# Altium footprint library 封装.PcbLib: 13 footprints
Each footprint in its own frame and in the unit in brackets; x right, y up, seen from the top. Pads: shape width x height; smd on the part's side, far side on the other; paste and mask are expansions set on the pad; w line width, h text height; cw(c..) or ccw(c..) is an arc to the next point about the centre after c.
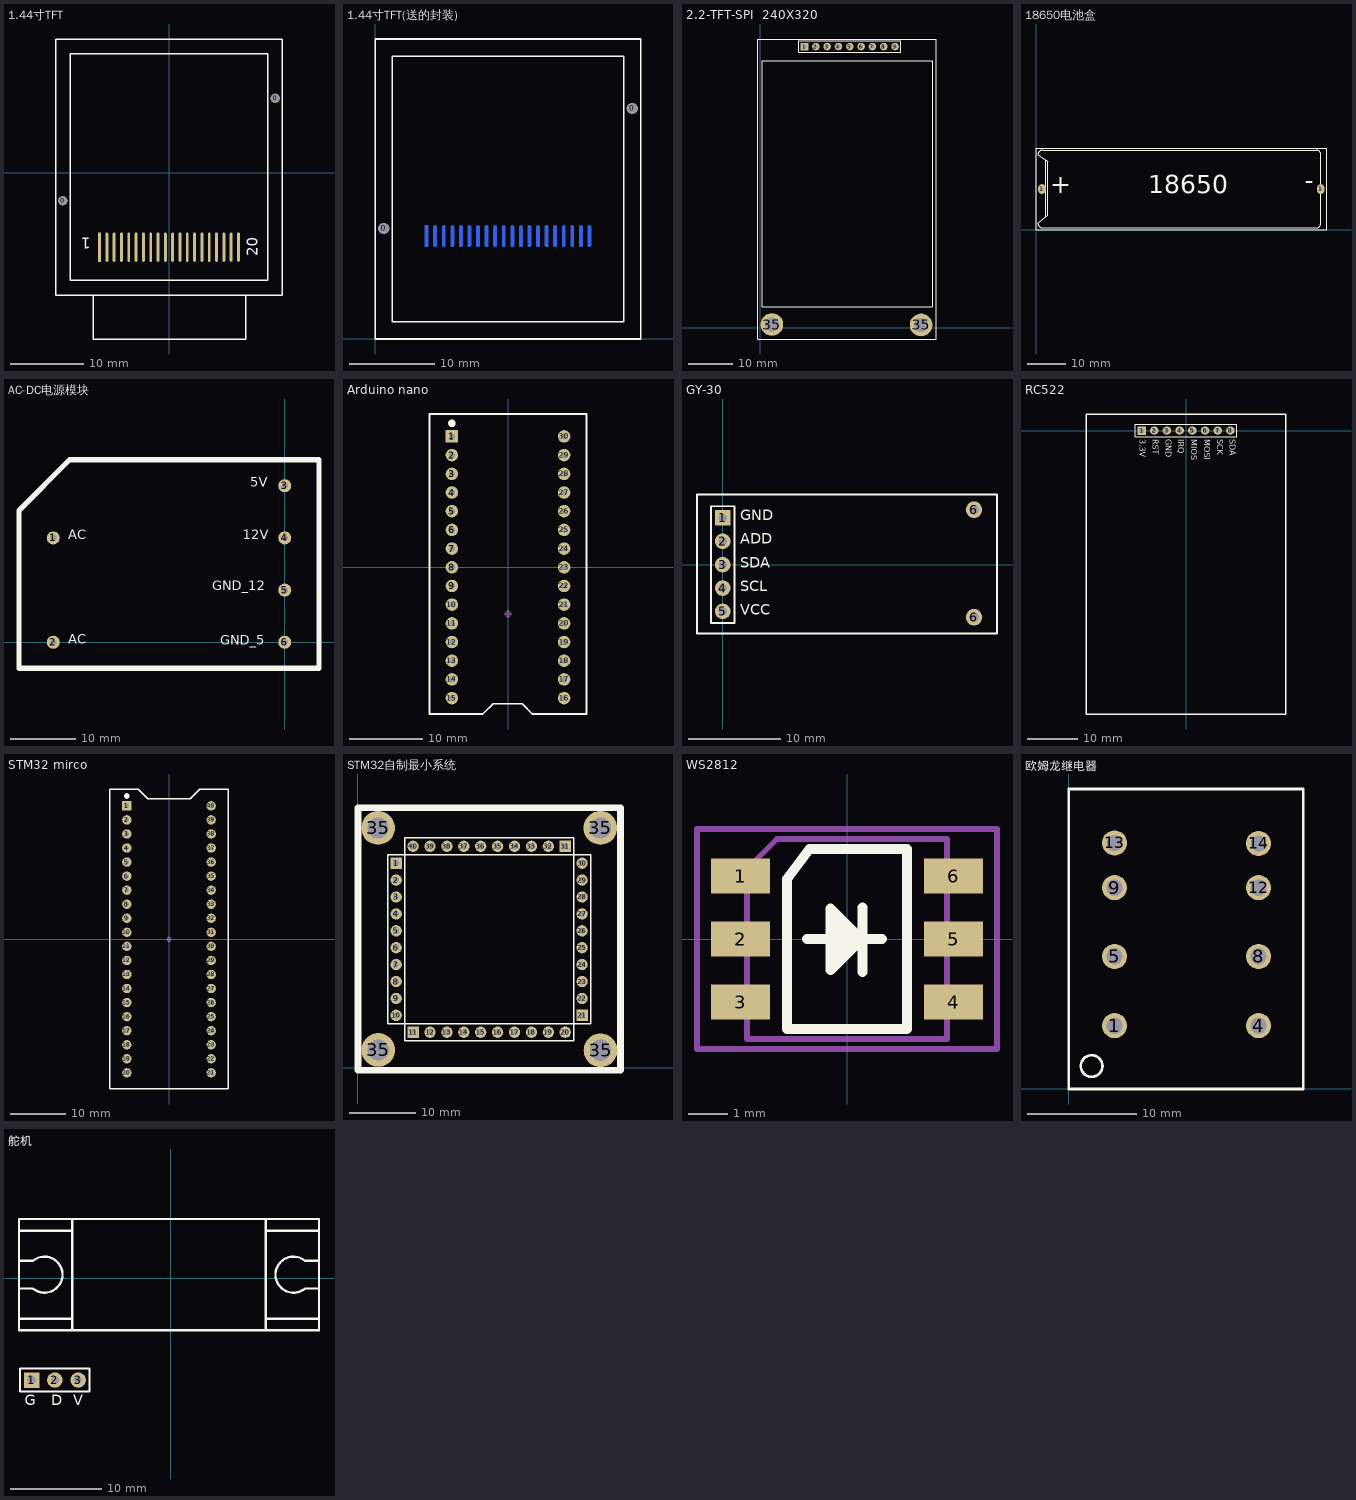
[diagram p0: the footprints below, top view; thin cyan lines are the x and y axes]

## 1.44寸TFT [mm] "1.44寸 并行TFT(买的--咸鱼至尊宝)"
pads (22):
  round 1.2 hole 1.3: 0(-14.5,-3.819) 0(14.5,10.181)
  rect 0.4x4 smd: 1(-9.5,-10.18)
  oval 0.4x4 smd: 2(-8.5,-10.18) 3(-7.5,-10.18) 4(-6.5,-10.18) 5(-5.5,-10.18) 6(-4.5,-10.18) 7(-3.5,-10.18) 8(-2.5,-10.18) 9(-1.5,-10.18) 10(-0.5,-10.18) 11(0.5,-10.18) 12(1.5,-10.18) 13(2.5,-10.18) 14(3.5,-10.18) 15(4.5,-10.18) 16(5.5,-10.18) 17(6.5,-10.18) 18(7.5,-10.18) 19(8.5,-10.18) 20(9.5,-10.18)
Top Overlay:
  lines w0.2: -13.5,13.281 -13.5,16.281 13.5,16.281 13.5,-14.719 -13.5,-14.719 -13.5,14.281 ; -10.363,-16.758 -10.363,-22.733 10.51,-22.733 10.51,-16.758 ; -15.5,-16.719 15.5,-16.719 15.5,18.281 -15.5,18.281 -15.5,-16.719
  text "1" at -10.674,-8.911 h1.5
  text "20" at 12.135,-11.411 h1.5

## 1.44寸TFT(送的封装) [mm] "1.44寸 并行TFT(买的--咸鱼至尊宝)"
pads (22):
  round 1.2 hole 1.3: 0(1,12.875) 0(30,26.875)
  rect 0.4x2.5 smd far side: 1(6,11.975)
  oval 0.4x2.5 smd far side: 2(7,11.975) 3(8,11.975) 4(9,11.975) 5(10,11.975) 6(11,11.975) 7(12,11.975) 8(13,11.975) 9(14,11.975) 10(15,11.975) 11(16,11.975) 12(17,11.975) 13(18,11.975) 14(19,11.975) 15(20,11.975) 16(21,11.975) 17(22,11.975) 18(23,11.975) 19(24,11.975) 20(25,11.975)
Top Overlay:
  lines w0.2: 2,29.975 2,32.975 29,32.975 29,1.975 2,1.975 2,30.975 ; 0,-0.025 31,-0.025 31,34.975 0,34.975 0,-0.025

## 2.2-TFT-SPI  240X320 [mm] "红色的TFT彩屏2.2寸"
pads (11):
  rect 1.7x1.7 hole 0.9: 1(9.931,63.068)
  round 1.7 hole 0.9: 2(12.471,63.068) 3(15.011,63.068) 4(17.551,63.068) 5(20.091,63.068) 6(22.631,63.068) 7(25.171,63.068) 8(27.711,63.068) 9(30.251,63.068)
  round 5.08 hole 3.175: 35(2.616,0.686) 35(36.093,0.584)
Top Overlay:
  lines w0.2: 8.661,61.798 31.521,61.798 31.521,64.338 8.661,64.338 8.661,61.798
  lines w0.254: -0.533,-2.565 -0.533,64.765 39.467,64.765 39.467,-2.565 -0.533,-2.565 ; 0.432,4.623 0.457,4.648 0.457,59.919 8.915,59.919 38.557,59.919 38.557,4.623 0.432,4.623
3D body "HDR2.54-1P.STEP": height 8.5, standoff -3, extent 26.441,61.798 28.981,64.338
3D body "HDR2.54-1P.STEP": height 8.5, standoff -3, extent 28.981,61.798 31.521,64.338
3D body "HDR2.54-1P.STEP": height 8.5, standoff -3, extent 21.361,61.798 23.901,64.338
3D body "HDR2.54-1P.STEP": height 8.5, standoff -3, extent 23.901,61.798 26.441,64.338
3D body "HDR2.54-1P.STEP": height 8.5, standoff -3, extent 18.821,61.798 21.361,64.338
3D body "HDR2.54-1P.STEP": height 8.5, standoff -3, extent 13.741,61.798 16.281,64.338
3D body "HDR2.54-1P.STEP": height 8.5, standoff -3, extent 16.281,61.798 18.821,64.338
3D body "HDR2.54-1P.STEP": height 8.5, standoff -3, extent 8.661,61.798 11.201,64.338
3D body "HDR2.54-1P.STEP": height 8.5, standoff -3, extent 11.201,61.798 13.741,64.338

## 18650电池盒 [mm] "单节的18650电池盒"
pads (2):
  oval 2x2.5 hole 0.8: 1(1.524,10.49) 1(73.457,10.49)
Top Overlay:
  lines w0.254: 1.737,0.442 cw(c1.737,1.712) 0.467,1.712 2.997,3.691 2.997,17.602 0.467,19.288 cw(c1.737,19.288) 1.737,20.558 33.721,20.558 72.279,20.558 cw(c72.279,19.339) 73.498,19.339 73.498,1.762 ; 1.762,0.442 72.192,0.442 ; 2.539,3.378 2.539,17.907 ; 72.167,0.442 ccw(c72.167,1.762) 73.488,1.762 ; 0,0 0,21 75,21 75,0 0,0
  text "-" at 69.393,8.84 h8
  text "+" at 3.632,7.899 h8
  text "18650" at 28.931,7.899 h8

## AC-DC电源模块 [mm] "220V转12V和5V电源模块"
pads (6):
  round 2 hole 1: 1(-35.5,16) 2(-35.5,0) 3(0,24) 4(0,16) 5(0,8) 6(0,0)
Top Overlay:
  lines w0.8: -40.75,-4 5.25,-4 5.25,28 -32.96,28 -40.75,20.21 -40.75,-4
  text "AC" at -33.198,15.24 h2.5
  text "AC" at -33.198,-0.762 h2.5
  text "5V" at -5.257,23.289 h2.5
  text "12V" at -6.426,15.288 h2.5
  text "GND_12" at -11.105,7.439 h2.5
  text "GND_5" at -9.906,-0.917 h2.5

## Arduino nano [mm]
pads (30):
  rect 1.7x1.7 hole 0.8: 1(-7.62,17.78)
  round 1.7 hole 0.8: 2(-7.62,15.24) 3(-7.62,12.7) 4(-7.62,10.16) 5(-7.62,7.62) 6(-7.62,5.08) 7(-7.62,2.54) 8(-7.62,0) 9(-7.62,-2.54) 10(-7.62,-5.08) 11(-7.62,-7.62) 12(-7.62,-10.16) 13(-7.62,-12.7) 14(-7.62,-15.24) 15(-7.62,-17.78) 16(7.62,-17.78) 17(7.62,-15.24) 18(7.62,-12.7) 19(7.62,-10.16) 20(7.62,-7.62) 21(7.62,-5.08) 22(7.62,-2.54) 23(7.62,0) 24(7.62,2.54) 25(7.62,5.08) 26(7.62,7.62) 27(7.62,10.16) 28(7.62,12.7) 29(7.62,15.24) 30(7.62,17.78)
Top Overlay:
  circle w0.508: c-7.62,19.558 r0.254
  lines w0.254: 5.588,20.828 10.668,20.828 10.668,-19.939 3.302,-19.939 1.905,-18.542 0.921,-18.542 -1.048,-18.542 -2.032,-18.542 -3.429,-19.939 -10.668,-19.939 -10.668,20.828 -5.588,20.828 5.842,20.828
Mechanical 15:
  circle w0.05: c0,-6.35 r0.35
  lines w0.05: -0.5,-6.35 0.5,-6.35 ; 0,-6.85 0,-5.85

## GY-30 [mm]
pads (7):
  rect 1.7x1.7 hole 0.9: 1(0,5.08)
  round 1.7 hole 0.9: 2(0,2.54) 3(0,0) 4(0,-2.54) 5(0,-5.08)
  round 1.8 hole 1: 6(27.305,-5.715) 6(27.305,5.969)
Top Overlay:
  lines w0.2: -1.27,-6.35 -1.27,6.35 1.27,6.35 1.27,-6.35 -1.27,-6.35
  lines w0.254: -2.794,-7.48 -2.794,7.62 29.806,7.62 29.806,-7.48 -2.794,-7.48
  text "GND" at 1.905,4.445 h2
  text "ADD" at 1.905,1.873 h2
  text "SDA" at 1.905,-0.699 h2
  text "SCL" at 1.905,-3.27 h2
  text "VCC" at 1.905,-5.842 h2
3D body "HDR2.54-1P.STEP": height 8.5, standoff -3, extent -1.27,-6.35 1.27,-3.81
3D body "HDR2.54-1P.STEP": height 8.5, standoff -3, extent -1.27,-1.27 1.27,1.27
3D body "HDR2.54-1P.STEP": height 8.5, standoff -3, extent -1.27,-3.81 1.27,-1.27
3D body "HDR2.54-1P.STEP": height 8.5, standoff -3, extent -1.27,3.81 1.27,6.35
3D body "HDR2.54-1P.STEP": height 8.5, standoff -3, extent -1.27,1.27 1.27,3.81

## RC522 [mm]
pads (8):
  rect 1.7x1.7 hole 0.9: 1(-8.89,0)
  round 1.7 hole 0.9: 2(-6.35,0) 3(-3.81,0) 4(-1.27,0) 5(1.27,0) 6(3.81,0) 7(6.35,0) 8(8.89,0)
Top Overlay:
  lines w0.2: -10.16,-1.27 10.16,-1.27 10.16,1.27 -10.16,1.27 -10.16,-1.27
  lines w0.254: -20,-56.698 20,-56.698 20,3.302 -20,3.302 -20,-56.698
  text "3.3V" at -9.652,-1.778 h2
  text "RST" at -7.076,-1.778 h2
  text "GND" at -4.499,-1.778 h2
  text "IRQ" at -1.923,-1.778 h2
  text "MIOS" at 0.653,-1.778 h2
  text "MOSI" at 3.229,-1.778 h2
  text "SCK" at 5.806,-1.778 h2
  text "SDA" at 8.382,-1.778 h2
3D body "HDR2.54-1P_M.STEP": height 8.5, standoff -3, extent 7.62,-1.27 10.16,1.27
3D body "HDR2.54-1P_M.STEP": height 8.5, standoff -3, extent -5.08,-1.27 -2.54,1.27
3D body "HDR2.54-1P_M.STEP": height 8.5, standoff -3, extent -10.16,-1.27 -7.62,1.27
3D body "HDR2.54-1P_M.STEP": height 8.5, standoff -3, extent -7.62,-1.27 -5.08,1.27
3D body "HDR2.54-1P_M.STEP": height 8.5, standoff -3, extent 2.54,-1.27 5.08,1.27
3D body "HDR2.54-1P_M.STEP": height 8.5, standoff -3, extent -2.54,-1.27 0,1.27
3D body "HDR2.54-1P_M.STEP": height 8.5, standoff -3, extent 0,-1.27 2.54,1.27
3D body "HDR2.54-1P_M.STEP": height 8.5, standoff -3, extent 5.08,-1.27 7.62,1.27

## STM32 mirco [mm]
pads (40):
  rect 1.7x1.7 hole 0.8: 1(-7.62,24.13)
  round 1.7 hole 0.8: 2(-7.62,21.59) 3(-7.62,19.05) 4(-7.62,16.51) 5(-7.62,13.97) 6(-7.62,11.43) 7(-7.62,8.89) 8(-7.62,6.35) 9(-7.62,3.81) 10(-7.62,1.27) 11(-7.62,-1.27) 12(-7.62,-3.81) 13(-7.62,-6.35) 14(-7.62,-8.89) 15(-7.62,-11.43) 16(-7.62,-13.97) 17(-7.62,-16.51) 18(-7.62,-19.05) 19(-7.62,-21.59) 20(-7.62,-24.13) 21(7.62,-24.13) 22(7.62,-21.59) 23(7.62,-19.05) 24(7.62,-16.51) 25(7.62,-13.97) 26(7.62,-11.43) 27(7.62,-8.89) 28(7.62,-6.35) 29(7.62,-3.81) 30(7.62,-1.27) 31(7.62,1.27) 32(7.62,3.81) 33(7.62,6.35) 34(7.62,8.89) 35(7.62,11.43) 36(7.62,13.97) 37(7.62,16.51) 38(7.62,19.05) 39(7.62,21.59) 40(7.62,24.13)
Top Overlay:
  circle w0.508: c-7.62,25.908 r0.254
  lines w0.254: -0.635,25.4 -3.81,25.4 ; 0.635,25.4 3.81,25.4 ; -3.81,25.4 -5.588,27.178 -10.668,27.178 -10.668,-27.051 10.668,-27.051 10.668,27.178 5.588,27.178 3.81,25.4 ; -3.81,25.4 3.81,25.4
Mechanical 15:
  circle w0.05: c0,0 r0.35
  lines w0.05: -0.5,0 0.5,0 ; 0,-0.5 0,0.5

## STM32自制最小系统 [mm]
pads (44):
  rect 1.7x1.7 hole 0.9: 1(5.791,30.759) 11(8.331,5.359) 21(33.731,7.899) 31(31.191,33.299)
  round 1.7 hole 0.9: 2(5.791,28.219) 3(5.791,25.679) 4(5.791,23.139) 5(5.791,20.599) 6(5.791,18.059) 7(5.791,15.519) 8(5.791,12.979) 9(5.791,10.439) 10(5.791,7.899) 12(10.871,5.359) 13(13.411,5.359) 14(15.951,5.359) 15(18.491,5.359) 16(21.031,5.359) 17(23.571,5.359) 18(26.111,5.359) 19(28.651,5.359) 20(31.191,5.359) 22(33.731,10.439) 23(33.731,12.979) 24(33.731,15.519) 25(33.731,18.059) 26(33.731,20.599) 27(33.731,23.139) 28(33.731,25.679) 29(33.731,28.219) 30(33.731,30.759) 32(28.651,33.299) 33(26.111,33.299) 34(23.571,33.299) 35(21.031,33.299) 36(18.491,33.299) 37(15.951,33.299) 38(13.411,33.299) 39(10.871,33.299) 40(8.331,33.299)
  round 5.08 hole 3.175: 35(3.073,36.068) 35(3.099,2.692) 35(36.474,36.068) 35(36.5,2.642)
Top Layer:
  pour cut-out: 8.306,5.817
  pour cut-out: 45.136,13.564
Top Overlay:
  lines w0.2: 7.061,6.629 7.061,4.089 32.461,4.089 32.461,6.629 ; 7.061,6.629 32.461,6.629 ; 7.061,6.629 4.521,6.629 4.521,32.029 7.061,32.029 ; 7.061,6.629 7.061,32.029 ; 7.061,32.029 7.061,34.569 32.461,34.569 32.461,32.029 ; 7.061,32.029 32.461,32.029 ; 32.461,6.629 32.461,32.029 ; 32.461,6.629 35.001,6.629 35.001,32.029 32.461,32.029
  lines w1: 0.051,-0.356 0.051,39.091 39.497,39.091 39.497,-0.356 0.051,-0.356
3D body "HDR2.54-1P.STEP": height 8.5, standoff -3, extent 9.601,4.089 12.141,6.629
3D body "HDR2.54-1P.STEP": height 8.5, standoff -3, extent 7.061,4.089 9.601,6.629
3D body "HDR2.54-1P.STEP": height 8.5, standoff -3, extent 14.681,4.089 17.221,6.629
3D body "HDR2.54-1P.STEP": height 8.5, standoff -3, extent 12.141,4.089 14.681,6.629
3D body "HDR2.54-1P.STEP": height 8.5, standoff -3, extent 17.221,4.089 19.761,6.629
3D body "HDR2.54-1P.STEP": height 8.5, standoff -3, extent 22.301,4.089 24.841,6.629
3D body "HDR2.54-1P.STEP": height 8.5, standoff -3, extent 19.761,4.089 22.301,6.629
3D body "HDR2.54-1P.STEP": height 8.5, standoff -3, extent 27.381,4.089 29.921,6.629
3D body "HDR2.54-1P.STEP": height 8.5, standoff -3, extent 24.841,4.089 27.381,6.629
3D body "HDR2.54-1P.STEP": height 8.5, standoff -3, extent 29.921,4.089 32.461,6.629
3D body "HDR2.54-1P.STEP": height 8.5, standoff -3, extent 32.461,29.489 35.001,32.029
3D body "HDR2.54-1P.STEP": height 8.5, standoff -3, extent 32.461,24.409 35.001,26.949
3D body "HDR2.54-1P.STEP": height 8.5, standoff -3, extent 32.461,26.949 35.001,29.489
3D body "HDR2.54-1P.STEP": height 8.5, standoff -3, extent 32.461,19.329 35.001,21.869
3D body "HDR2.54-1P.STEP": height 8.5, standoff -3, extent 32.461,21.869 35.001,24.409
3D body "HDR2.54-1P.STEP": height 8.5, standoff -3, extent 32.461,16.789 35.001,19.329
3D body "HDR2.54-1P.STEP": height 8.5, standoff -3, extent 32.461,11.709 35.001,14.249
3D body "HDR2.54-1P.STEP": height 8.5, standoff -3, extent 32.461,14.249 35.001,16.789
3D body "HDR2.54-1P.STEP": height 8.5, standoff -3, extent 32.461,6.629 35.001,9.169
3D body "HDR2.54-1P.STEP": height 8.5, standoff -3, extent 32.461,9.169 35.001,11.709
3D body "HDR2.54-1P.STEP": height 8.5, standoff -3, extent 27.381,32.029 29.921,34.569
3D body "HDR2.54-1P.STEP": height 8.5, standoff -3, extent 29.921,32.029 32.461,34.569
3D body "HDR2.54-1P.STEP": height 8.5, standoff -3, extent 22.301,32.029 24.841,34.569
3D body "HDR2.54-1P.STEP": height 8.5, standoff -3, extent 24.841,32.029 27.381,34.569
3D body "HDR2.54-1P.STEP": height 8.5, standoff -3, extent 19.761,32.029 22.301,34.569
3D body "HDR2.54-1P.STEP": height 8.5, standoff -3, extent 14.681,32.029 17.221,34.569
3D body "HDR2.54-1P.STEP": height 8.5, standoff -3, extent 17.221,32.029 19.761,34.569
3D body "HDR2.54-1P.STEP": height 8.5, standoff -3, extent 9.601,32.029 12.141,34.569
3D body "HDR2.54-1P.STEP": height 8.5, standoff -3, extent 12.141,32.029 14.681,34.569
3D body "HDR2.54-1P.STEP": height 8.5, standoff -3, extent 7.061,32.029 9.601,34.569
3D body "HDR2.54-1P.STEP": height 8.5, standoff -3, extent 4.521,26.949 7.061,29.489
3D body "HDR2.54-1P.STEP": height 8.5, standoff -3, extent 4.521,29.489 7.061,32.029
3D body "HDR2.54-1P.STEP": height 8.5, standoff -3, extent 4.521,21.869 7.061,24.409
3D body "HDR2.54-1P.STEP": height 8.5, standoff -3, extent 4.521,24.409 7.061,26.949
3D body "HDR2.54-1P.STEP": height 8.5, standoff -3, extent 4.521,19.329 7.061,21.869
3D body "HDR2.54-1P.STEP": height 8.5, standoff -3, extent 4.521,14.249 7.061,16.789
3D body "HDR2.54-1P.STEP": height 8.5, standoff -3, extent 4.521,16.789 7.061,19.329
3D body "HDR2.54-1P.STEP": height 8.5, standoff -3, extent 4.521,9.169 7.061,11.709
3D body "HDR2.54-1P.STEP": height 8.5, standoff -3, extent 4.521,11.709 7.061,14.249
3D body "HDR2.54-1P.STEP": height 8.5, standoff -3, extent 4.521,6.629 7.061,9.169

## WS2812 [mm] "全彩LED"
pads (6):
  rect 1.5x0.9 smd: 1(-2.705,1.6) 2(-2.705,0) 3(-2.705,-1.6) 4(2.705,-1.6) 5(2.705,0) 6(2.705,1.6)
Top Overlay:
  lines w0.254: -1.016,0 0.889,0 ; -0.254,0.559 -0.229,-0.432 0.254,0 0,0.254 0,0 0,-0.254 ; 0.356,-0.02 -0.417,-0.792 -0.417,0.775 0.396,-0.038 ; 0.396,-0.841 0.396,0.805 ; -1.524,-2.286 -1.524,1.524 -0.953,2.286 1.524,2.286 1.524,-2.286 -1.524,-2.286
Mechanical 13:
  lines w0.15: -2.54,-2.54 -2.54,1.778 -1.778,2.54 2.54,2.54 2.54,-2.54 -2.54,-2.54
Mechanical 15:
  circle w0.05: c0,0 r0.35
  lines w0.05: -0.5,0 0.5,0 ; 0,-0.5 0,0.5
  lines w0.15: -3.81,-2.794 -3.81,2.794 3.81,2.794 3.81,-2.794 -3.81,-2.794
3D body "LED 5050 基体.STEP": height 1.65, standoff 0.05, extent -2.7,-2.5 2.7,2.5
3D body "LED 5050 透明胶.ST": height 1.65, standoff 0.67, extent -1.995,-1.995 1.995,1.995

## 欧姆龙继电器 [mm] "欧姆龙通用继电器"
pads (8):
  round 2.3 hole 1.5: 1(4.2,5.8) 4(17.4,5.8) 5(4.2,12.15) 8(17.4,12.15) 9(4.2,18.45) 12(17.4,18.45) 13(4.2,22.55) 14(17.4,22.5)
Top Overlay:
  circle w0.254: c2.1,2.1 r0.992
  lines w0.254: 21.5,-0.006 21.5,27.494 0,27.494 0,0 21.5,0

## 舵机 [mm]
pads (3):
  rect 1.7x1.7 hole 0.9: 1(-15.24,-11.176)
  round 1.7 hole 0.9: 2(-12.7,-11.176) 3(-10.16,-11.176)
Top Overlay:
  lines w0.2: -16.51,-12.446 -16.51,-9.906 -8.89,-9.906 -8.89,-12.446 -16.51,-12.446
  lines w0.254: -16.637,-4.445 -10.795,-4.445 ; -16.637,-1.143 -15.113,-1.143 ; -16.637,1.905 -15.113,1.905 ; -16.637,5.207 -10.795,5.207 ; -15.108,-1.137 ccw(c-13.843,0.381) -15.108,1.899 ; -10.795,-5.588 -10.795,6.477 ; 10.414,5.207 16.256,5.207 ; 10.414,6.477 10.414,-5.596 10.414,-4.445 16.256,-4.445 ; 14.727,-1.137 cw(c13.462,0.381) 14.727,1.899 ; 14.732,-1.143 16.256,-1.143 ; 14.732,1.905 16.256,1.905 ; 16.163,-5.723 -16.637,-5.723 -16.637,6.477 16.163,6.477 ; 16.256,-5.719 16.256,6.481
  text "V" at -10.668,-14.303 h2
  text "D" at -13.081,-14.351 h2
  text "G" at -16.002,-14.351 h2
3D body "HDR2.54-1P.STEP": height 8.5, standoff -3, extent -11.43,-12.446 -8.89,-9.906
3D body "HDR2.54-1P.STEP": height 8.5, standoff -3, extent -16.51,-12.446 -13.97,-9.906
3D body "HDR2.54-1P.STEP": height 8.5, standoff -3, extent -13.97,-12.446 -11.43,-9.906